# Altium schematic symbol library powermanagement.SchLib: 5 symbols
Pins are listed as number, name and electrical type; pins without a type are passive.

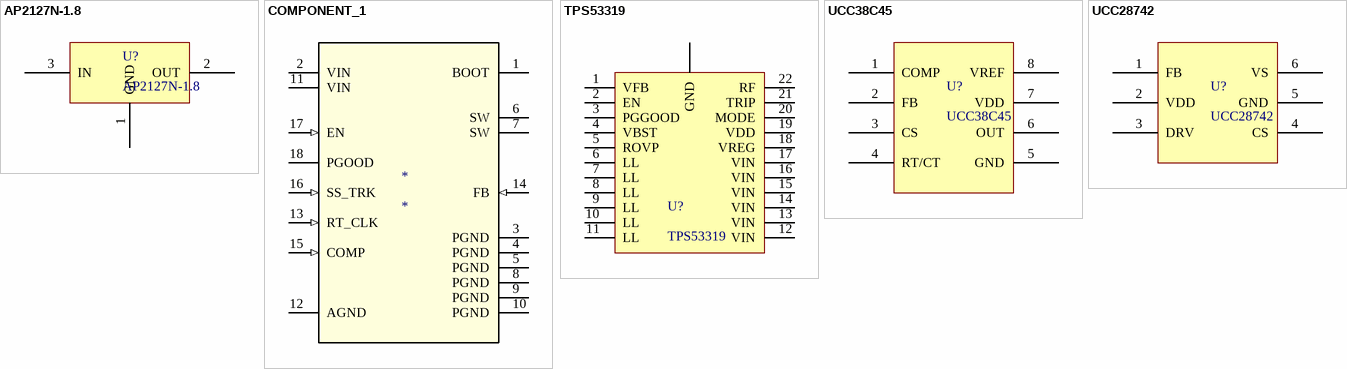
[diagram p0: symbols AP2127N-1.8 to UCC28742]

## AP2127N-1.8
designator U?
footprint SOT95P245X110-3N (SOT23, 3-Leads, Body 2.90x2.45mm, Pitch 0.95mm, IPC Medium Density)
pins: 1 GND, 2 OUT, 3 IN

## COMPONENT_1
designator *
pins: 1 BOOT, 2 VIN (power), 3 PGND (power), 4 PGND (power), 5 PGND (power), 6 SW (power), 7 SW (power), 8 PGND (power), 9 PGND (power), 10 PGND (power), 11 VIN (power), 12 AGND (power), 13 RT_CLK (in), 14 FB (in), 15 COMP (in), 16 SS_TRK (in), 17 EN (in), 18 PGOOD (oc)

## TPS53319
designator U?
footprint DFN_22_6X5_0.5
pins: 1 VFB, 2 EN, 3 PGGOOD, 4 VBST, 5 ROVP, 6 LL, 7 LL, 8 LL, 9 LL, 10 LL, 11 LL, 12 VIN, 13 VIN, 14 VIN, 15 VIN, 16 VIN, 17 VIN, 18 VREG, 19 VDD, 20 MODE, 21 TRIP, 22 RF, GND

## UCC38C45
designator U?
footprint SOIC127P600X175-8N (SOIC, 8-Leads, Body 4.90x3.90mm, Pitch 1.27mm, IPC Medium Density)
pins: 1 COMP, 2 FB, 3 CS, 4 RT/CT, 5 GND, 6 OUT, 7 VDD, 8 VREF

## UCC28742
designator U?
Flayback Controller / SOT23-6; Manufacturer: TI; Part Number: UCC28742
footprint SOT95P280X145-6N (SOT23, 6-Leads, Body 2.90x2.80mm, Pitch 0.95mm, IPC Medium Density)
pins: 1 FB, 2 VDD, 3 DRV, 4 CS, 5 GND, 6 VS